# EAGLE library part ATTINY1617 (library borkedlabs-micros)
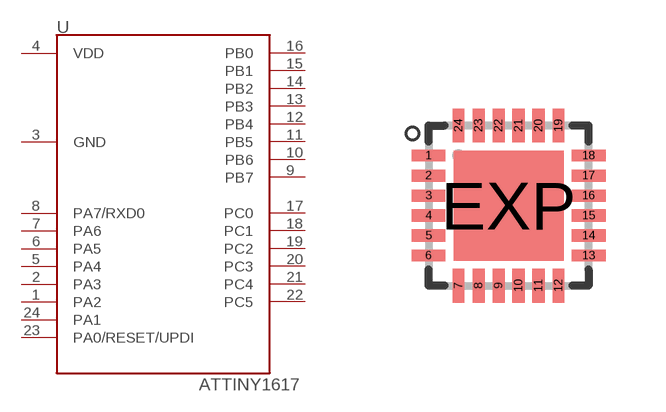
[diagram p11: symbol with the pads of VQFN24-4X4; footprint VQFN24-4X4]

Designator prefix U

## ATTINY1617-M (MPN: ATTINY1617-M; PACKAGE: VQFN24-4x4)  [VQFN24-4X4]
1  PA2
2  PA3
3  GND
4  VDD
5  PA4
6  PA5
7  PA6
8  PA7/RXD0
9  PB7
10  PB6
11  PB5
12  PB4
13  PB3
14  PB2
15  PB1
16  PB0
17  PC0
18  PC1
19  PC2
20  PC3
21  PC4
22  PC5
23  PA0/RESET/UPDI
24  PA1

## Footprint VQFN24-4X4 (pad centres in mm)
UF Package 24-Lead (4mm × 4mm) Plastic QFN Source: http://cds.linear.com/docs/Datasheet/5598f.pdf
smd 0.85 x 0.3: 1 -2,1.25; 2 -2,0.75; 3 -2,0.25; 4 -2,-0.25; 5 -2,-0.75; 6 -2,-1.25; 13 2,-1.25; 14 2,-0.75; 15 2,-0.25; 16 2,0.25; 17 2,0.75; 18 2,1.25
smd 0.3 x 0.85: 7 -1.25,-2; 8 -0.75,-2; 9 -0.25,-2; 10 0.25,-2; 11 0.75,-2; 12 1.25,-2; 19 1.25,2; 20 0.75,2; 21 0.25,2; 22 -0.25,2; 23 -0.75,2; 24 -1.25,2
smd 2.75 x 2.75: EXP 0,0